# EAGLE library part LMP8640 (library William)
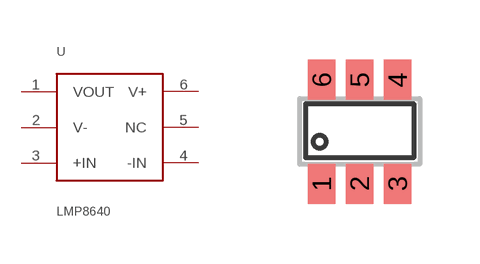
[diagram p1: symbol with the pads of TSOT-8; footprint TSOT-8]

Designator prefix -

## LMP8640  [TSOT-8]
1  VOUT  out
2  V-
3  +IN
4  -IN
5  NC  nc
6  V+  pwr

## Footprint TSOT-8 (pad centres in mm)
smd 0.69 x 1: 1 -0.95,0; 2 0,0; 3 0.95,0; 4 0.95,2.6; 5 0,2.6; 6 -0.95,2.6